# EAGLE library part TN2?-* (library relay)
SLIM POLARIZED RELAY NAiS Source: http://www.mew-europe.com/.. en_ds_61019_0000.pdf
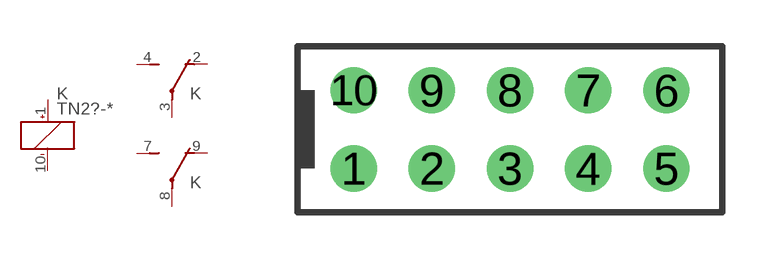
[diagram p68: symbol with the pads of TN2; footprint TN2]

Designator prefix K; gates -=K+- 1=U 2=U

## TN2-12V (MF: AROMAT/ MATSUSHITA; MPN: TN2-12V; OC_FARNELL: 1200956; OC_NEWARK: 65K1079), TN2-24V (MF: AROMAT/ MATSUSHITA; MPN: TN2-24V; OC_FARNELL: 910405; OC_NEWARK: 64K3187), TN2-3V (MF: AROMAT/ MATSUSHITA; MPN: TN2-3V; OC_FARNELL: unknown; OC_NEWARK: 90F3177), TN2-4.5V (MF: AROMAT/ MATSUSHITA; MPN: TN2-4.5V; OC_FARNELL: 1231845; OC_NEWARK: 64K3188), TN2-48V (MPN: TN2-48V; OC_FARNELL: unknown; OC_NEWARK: 13P9184), TN2-5V (MF: AROMAT/ MATSUSHITA; MPN: TN2-5V; OC_FARNELL: 1200955; OC_NEWARK: 64K3189), TN2-6V (MF: AROMAT/ MATSUSHITA; MPN: TN2-6V; OC_FARNELL: unknown; OC_NEWARK: 90F3180), TN2-9V (MF: AROMAT/ MATSUSHITA; MPN: TN2-9V; OC_FARNELL: unknown; OC_NEWARK: 90F3181)  [TN2]
1  -:+  pas
2  1:O  pas
3  1:P  pas
4  1:S  pas
7  2:S  pas
8  2:P  pas
9  2:O  pas
10  -:-  pas

## TN2-L-12V (MF: AROMAT/ MATSUSHITA; MPN: TN2-L-12V; OC_FARNELL: unknown; OC_NEWARK: 90F3171), TN2-L-24V (OC_FARNELL: unknown; OC_NEWARK: unknown), TN2-L-3V (MF: AROMAT/ MATSUSHITA; MPN: TN2-L-3V; OC_FARNELL: unknown; OC_NEWARK: 90F3184), TN2-L-4.5V (MPN: TN2-L-4.5V; OC_FARNELL: unknown; OC_NEWARK: 15P9757), TN2-L-5. (OC_FARNELL: unknown; OC_NEWARK: unknown), TN2-L-6V (MF: AROMAT/ MATSUSHITA; MPN: TN2-L-6V; OC_FARNELL: unknown; OC_NEWARK: 90F3169), TN2-L-9V (OC_FARNELL: unknown; OC_NEWARK: unknown)  [TN2]
1  -:-  pas
2  1:O  pas
3  1:P  pas
4  1:S  pas
7  2:S  pas
8  2:P  pas
9  2:O  pas
10  -:+  pas

## Footprint TN2 (pad centres in mm)
SLIM POLARIZED RELAY NAiS Source: http://www.mew-europe.com/.. en_ds_61019_0000.pdf
drill 1: 1 -5.08,-1.27; 2 -2.54,-1.27; 3 0,-1.27; 4 2.54,-1.27; 5 5.08,-1.27; 6 5.08,1.27; 7 2.54,1.27; 8 0,1.27; 9 -2.54,1.27; 10 -5.08,1.27